# Altium footprint library gyro-stable.PcbLib: 24 footprints (part 2 of 2)
Each footprint in its own frame and in the unit in brackets; x right, y up, seen from the top. Pads: shape width x height; smd on the part's side, far side on the other; paste and mask are expansions set on the pad; w line width, h text height; cw(c..) or ccw(c..) is an arc to the next point about the centre after c.
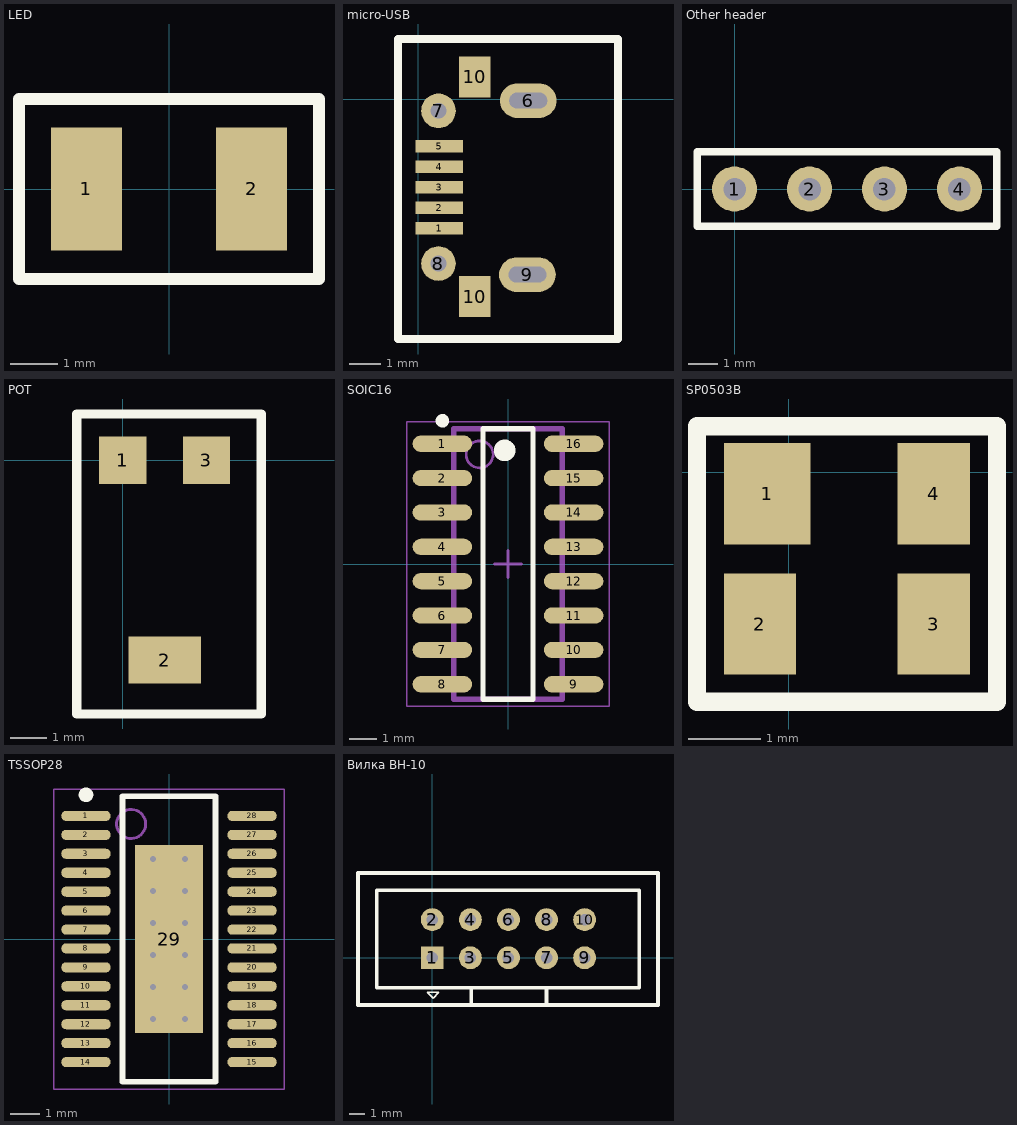
[diagram p1: the footprints below, top view; thin cyan lines are the x and y axes]

## LED [mm]
pads (2):
  rect 1.5x2.6 smd: 1(-1.75,0) 2(1.75,0)
Top Silk:
  lines w0.254: -3.175,-1.905 3.175,-1.905 3.175,1.905 0,1.905 -3.175,1.905 -3.175,-1.905
3D body "3528 SMD LED.stp": height 0.95, standoff -0.05, extent -1.75,-1.4 1.75,1.4

## micro-USB [mm]
pads (11):
  rect 1.5x0.4 smd: 1(0.675,-4.1) 2(0.675,-3.45) 3(0.675,-2.8) 4(0.675,-2.15) 5(0.675,-1.5)
  oval 1.8x1.1 hole 0.5 slot 1.2 at 0 deg unplated: 6(3.5,-0.05) 9(3.475,-5.575)
  round 1.1 hole 0.5: 7(0.65,-0.375) 8(0.65,-5.225)
  rect 1x1.3 smd: 10(1.8,-6.275) 10(1.8,0.7)
Top Silk:
  lines w0.254: -0.635,-7.62 -0.635,1.905 2.54,1.905 6.35,1.905 6.35,-7.62 -0.635,-7.62
3D body "micro_usb_connector.stp": height 2.72, standoff -0.68, extent 0.481,-6.686 6.324,1.086

## Other header [mil]
pads (4):
  round 60 hole 30: 1(0,0) 2(100,0) 3(200,0) 4(300,0)
Top Silk:
  lines w10: -50,-50 350,-50 350,50 150,50 -50,50 -50,-50
3D body "DS1021-1x2S61.stp": height 338.58, standoff -118.11, extent -49.99,-49.99 150.01,50.01
3D body "DS1021-1x2S61.stp": height 338.58, standoff -118.11, extent 150.01,-49.99 350.01,50.01

## POT [mm]
pads (3):
  rect 1.3x1.3 smd: 1(0,0) 3(2.3,0)
  rect 2x1.3 smd: 2(1.15,-5.5)
Top Silk:
  lines w0.254: -1.27,-6.985 3.81,-6.985 3.81,1.27 1.27,1.27 -1.27,1.27 -1.27,-6.985

## SOIC16 [mm] "R-PDSO-G16"
height 1.75
pads (16):
  oval 2.2x0.6 smd: 1(-2.425,4.445) 2(-2.425,3.175) 3(-2.425,1.905) 4(-2.425,0.635) 5(-2.425,-0.635) 6(-2.425,-1.905) 7(-2.425,-3.175) 8(-2.425,-4.445) 9(2.425,-4.445) 10(2.425,-3.175) 11(2.425,-1.905) 12(2.425,-0.635) 13(2.425,0.635) 14(2.425,1.905) 15(2.425,3.175) 16(2.425,4.445)
Top Silk:
  circle w0.25: c-2.425,5.295 r0.125
  circle w0.4: c-0.125,4.2 r0.2
  lines w0.2: -0.925,-5 -0.925,5 0.925,5 0.925,-5 -0.925,-5
Mechanical 1:
  text "DD" at 1,-4 h1.5
Mechanical 13:
  circle w0.1: c-1.05,4.05 r0.5
  lines w0.2: -2,-5 -2,5 2,5 2,-5 -2,-5
Mechanical 15:
  lines w0.05: -3.75,-5.25 -3.75,5.25 3.75,5.25 3.75,-5.25 -3.75,-5.25
  lines w0.1: -0.5,0 0.5,0 ; 0,-0.5 0,0.5
3D body "SOIC-16.stp": height 2, standoff 0, extent -3.082,-5.04 3.082,5.04

## SP0503B [mm] "TO-253"
pads (4):
  rect 1.2x1.4 smd: 1(-0.3,-0.3)
  rect 1x1.4 smd: 2(-0.4,-2.1) 3(2,-2.1) 4(2,-0.3)
Top Silk:
  lines w0.254: -1.27,-3.175 -1.27,0.635 0.635,0.635 2.875,0.635 2.875,-3.175 -1.27,-3.175
3D body "TO-253AA.stp": height 1.2, standoff 0, extent -0.5,-2.65 2.1,0.35

## TSSOP28 [mm] "TSOP, 28-Leads, Body 9,70x4,40mm, Pitch 0,65mm, Thermal Pad 6,46.2x2,35.2mm, IPC Medium Density"
height 1.2
pads (29):
  oval 1.7x0.35 smd: 1(-2.85,4.225) 2(-2.85,3.575) 3(-2.85,2.925) 4(-2.85,2.275) 5(-2.85,1.625) 6(-2.85,0.975) 7(-2.85,0.325) 8(-2.85,-0.325) 9(-2.85,-0.975) 10(-2.85,-1.625) 11(-2.85,-2.275) 12(-2.85,-2.925) 13(-2.85,-3.575) 14(-2.85,-4.225) 15(2.85,-4.225) 16(2.85,-3.575) 17(2.85,-2.925) 18(2.85,-2.275) 19(2.85,-1.625) 20(2.85,-0.975) 21(2.85,-0.325) 22(2.85,0.325) 23(2.85,0.975) 24(2.85,1.625) 25(2.85,2.275) 26(2.85,2.925) 27(2.85,3.575) 28(2.85,4.225)
  rect 2.35x6.46 smd: 29(0,0)
via 0.55,-2.75 diameter 0.5 hole 0.2
via -0.55,-2.75 diameter 0.5 hole 0.2
via 0.55,-1.65 diameter 0.5 hole 0.2
via -0.55,-1.65 diameter 0.5 hole 0.2
via 0.55,-0.55 diameter 0.5 hole 0.2
via -0.55,-0.55 diameter 0.5 hole 0.2
via 0.55,0.55 diameter 0.5 hole 0.2
via -0.55,0.55 diameter 0.5 hole 0.2
via 0.55,1.65 diameter 0.5 hole 0.2
via -0.55,1.65 diameter 0.5 hole 0.2
via 0.55,2.75 diameter 0.5 hole 0.2
via -0.55,2.75 diameter 0.5 hole 0.2
Top Silk:
  circle w0.25: c-2.85,4.95 r0.125
  lines w0.2: -1.6,-4.9 1.6,-4.9 1.6,4.9 -1.6,4.9 -1.6,-4.9
Mechanical 1:
  text "DA" at 1,-4 h1.5
Mechanical 13:
  circle w0.1: c-1.3,3.95 r0.5
Mechanical 15:
  lines w0.05: -3.95,-5.15 3.95,-5.15 3.95,5.15 -3.95,5.15 -3.95,-5.15
  lines w0.1: -0.5,0 0.5,0 ; 0,-0.5 0,0.5
3D body "ADM3311EARUZ_TSSOP_RU28.STEP": height 1.14, standoff 0, extent -3.2,-4.85 3.2,4.85

## Вилка ВН-10 [mil]
pads (10):
  rect 60x60 hole 30: 1(0,0)
  round 60 hole 30: 2(0,100) 3(100,0) 4(100,100) 5(200,0) 6(200,100) 7(300,0) 8(300,100) 9(400,0) 10(400,100)
Top Silk:
  lines w3.94: 102.36,-124.02 102.36,-78.74 ; 300.2,-124.02 300.2,-78.74 ; -194.88,-124.02 -194.88,222.44 592.52,222.44 592.52,-124.02 423.23,-124.02 -194.88,-124.02 ; -145.67,-78.74 -145.67,177.17 543.31,177.17 543.31,113.19 543.31,-14.76 543.31,-78.74 11.81,-78.74 -145.67,-78.74 ; -13.78,-90.55 17.72,-90.55 1.97,-106.3 -13.78,-90.55
  lines w10: 102.36,-118.11 102.36,-78.74 ; 300.2,-124.02 300.2,-78.74 ; -194.88,-124.02 -194.88,222.44 592.52,222.44 592.52,-124.02 -194.88,-124.02 ; -145.67,-78.74 -145.67,177.17 543.31,177.17 543.31,-78.74 -145.67,-78.74
3D body "BH-10.step": height 348.1, standoff -129.92, extent -201.77,-126.97 599.8,235.24